# Altium schematic symbol library LOGIC_LIB.SchLib: 1 symbol
Pins are listed as number, name and electrical type; pins without a type are passive.

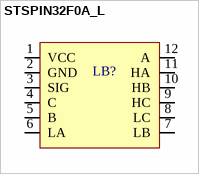
[diagram p0: symbol STSPIN32F0A_L]

## STSPIN32F0A_L
designator LB?  (value not drawn)
footprint STSPIN_LOGIC
pins: 1 VCC, 2 GND, 3 SIG, 4 C, 5 B, 6 LA, 7 LB, 8 LC, 9 HC, 10 HB, 11 HA, 12 A